# Altium footprint library PCB - LEADED - SOP - NEXPERIA TSSOP-5.PCBLIB: 1 footprints
Each footprint in its own frame and in the unit in brackets; x right, y up, seen from the top. Pads: shape width x height; smd on the part's side, far side on the other; paste and mask are expansions set on the pad; w line width, h text height; cw(c..) or ccw(c..) is an arc to the next point about the centre after c.
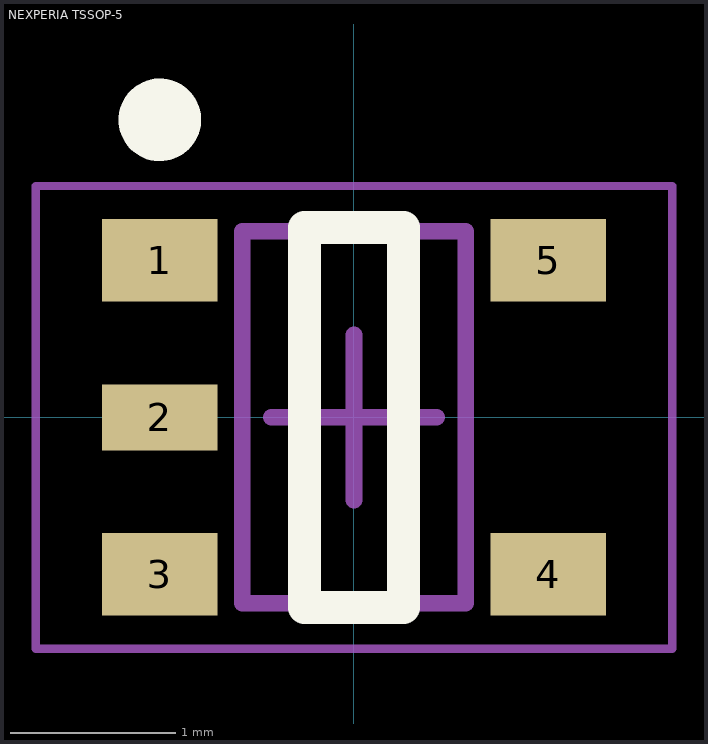
[diagram p0: the footprint, top view; thin cyan lines are the x and y axes]

## NEXPERIA TSSOP-5 [mm] "SOT23, 5-Leads, Body 2.05x2.45mm, Pitch 0.95mm, IPC Medium Density"
height 1.1
pads (5):
  rect 0.7x0.5 smd: 1(-1.175,0.95) 3(-1.175,-0.95) 4(1.175,-0.95) 5(1.175,0.95)
  rect 0.7x0.4 smd: 2(-1.175,0)
Top Overlay:
  circle w0.25: c-1.175,1.8 r0.125
  lines w0.2: -0.3,-1.15 -0.3,1.15 0.3,1.15 0.3,-1.15 -0.3,-1.15
Mechanical 13:
  lines w0.1: -0.675,-1.125 0.675,-1.125 0.675,1.125 -0.675,1.125 -0.675,-1.125
Mechanical 15:
  lines w0.05: -1.925,-1.4 1.925,-1.4 1.925,1.4 -1.925,1.4 -1.925,-1.4
  lines w0.1: -0.5,0 0.5,0 ; 0,-0.5 0,0.5
3D body: height 1.1, standoff 0.05, extent -0.675,-1.125 0.675,1.125